# Altium footprint library 其他元器件.PcbLib: 2 footprints
Each footprint in its own frame and in the unit in brackets; x right, y up, seen from the top. Pads: shape width x height; smd on the part's side, far side on the other; paste and mask are expansions set on the pad; w line width, h text height; cw(c..) or ccw(c..) is an arc to the next point about the centre after c.
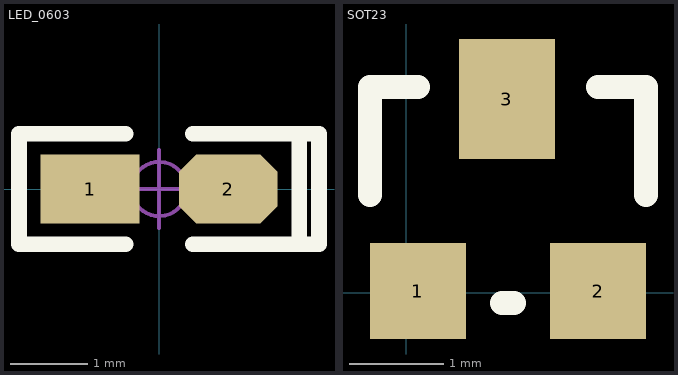
[diagram p0: the footprints below, top view; thin cyan lines are the x and y axes]

## LED_0603 [mil]
pads (2):
  rect 50x35 smd: 1(-35,0)
  oct 50x35 smd: 2(35,0)
Top Overlay:
  lines w8: -17,-28 -71,-28 -71,-26 -71,28 -70,28 -17,28 ; 17,-28 70,-28 ; 17,28 71,28 81,28 81,-28 71,-28 71,26
Mechanical 15:
  circle w1.97: c0,0 r13.78
  lines w1.97: -19.68,0 19.68,0 ; 0,-19.68 0,19.68
3D body "LED 0603玻璃罩.": height 0, standoff 0, extent 0,0 0,0
3D body "LED 0603-Y.STEP": height 18.36, standoff -0.16, extent -31.5,-16.04 31.49,15.53

## SOT23 [mil]
pads (3):
  rect 40x40 smd: 1(4.88,0.63) 2(79.88,0.63)
  rect 40x50 smd: 3(41.88,80.63)
Top Overlay:
  lines w10: -15.12,40.63 -15.12,85.63 4.88,85.63 ; 39.88,-4.37 44.88,-4.37 ; 79.88,85.63 99.88,85.63 99.88,40.63
3D body "SOT-23-3.STEP": height 47.24, standoff 0, extent -14.87,-11.02 99.3,99.22